# Altium footprint library Flight_Controller.PcbLib: 20 footprints (part 1 of 2)
Each footprint in its own frame and in the unit in brackets; x right, y up, seen from the top. Pads: shape width x height; smd on the part's side, far side on the other; paste and mask are expansions set on the pad; w line width, h text height; cw(c..) or ccw(c..) is an arc to the next point about the centre after c.
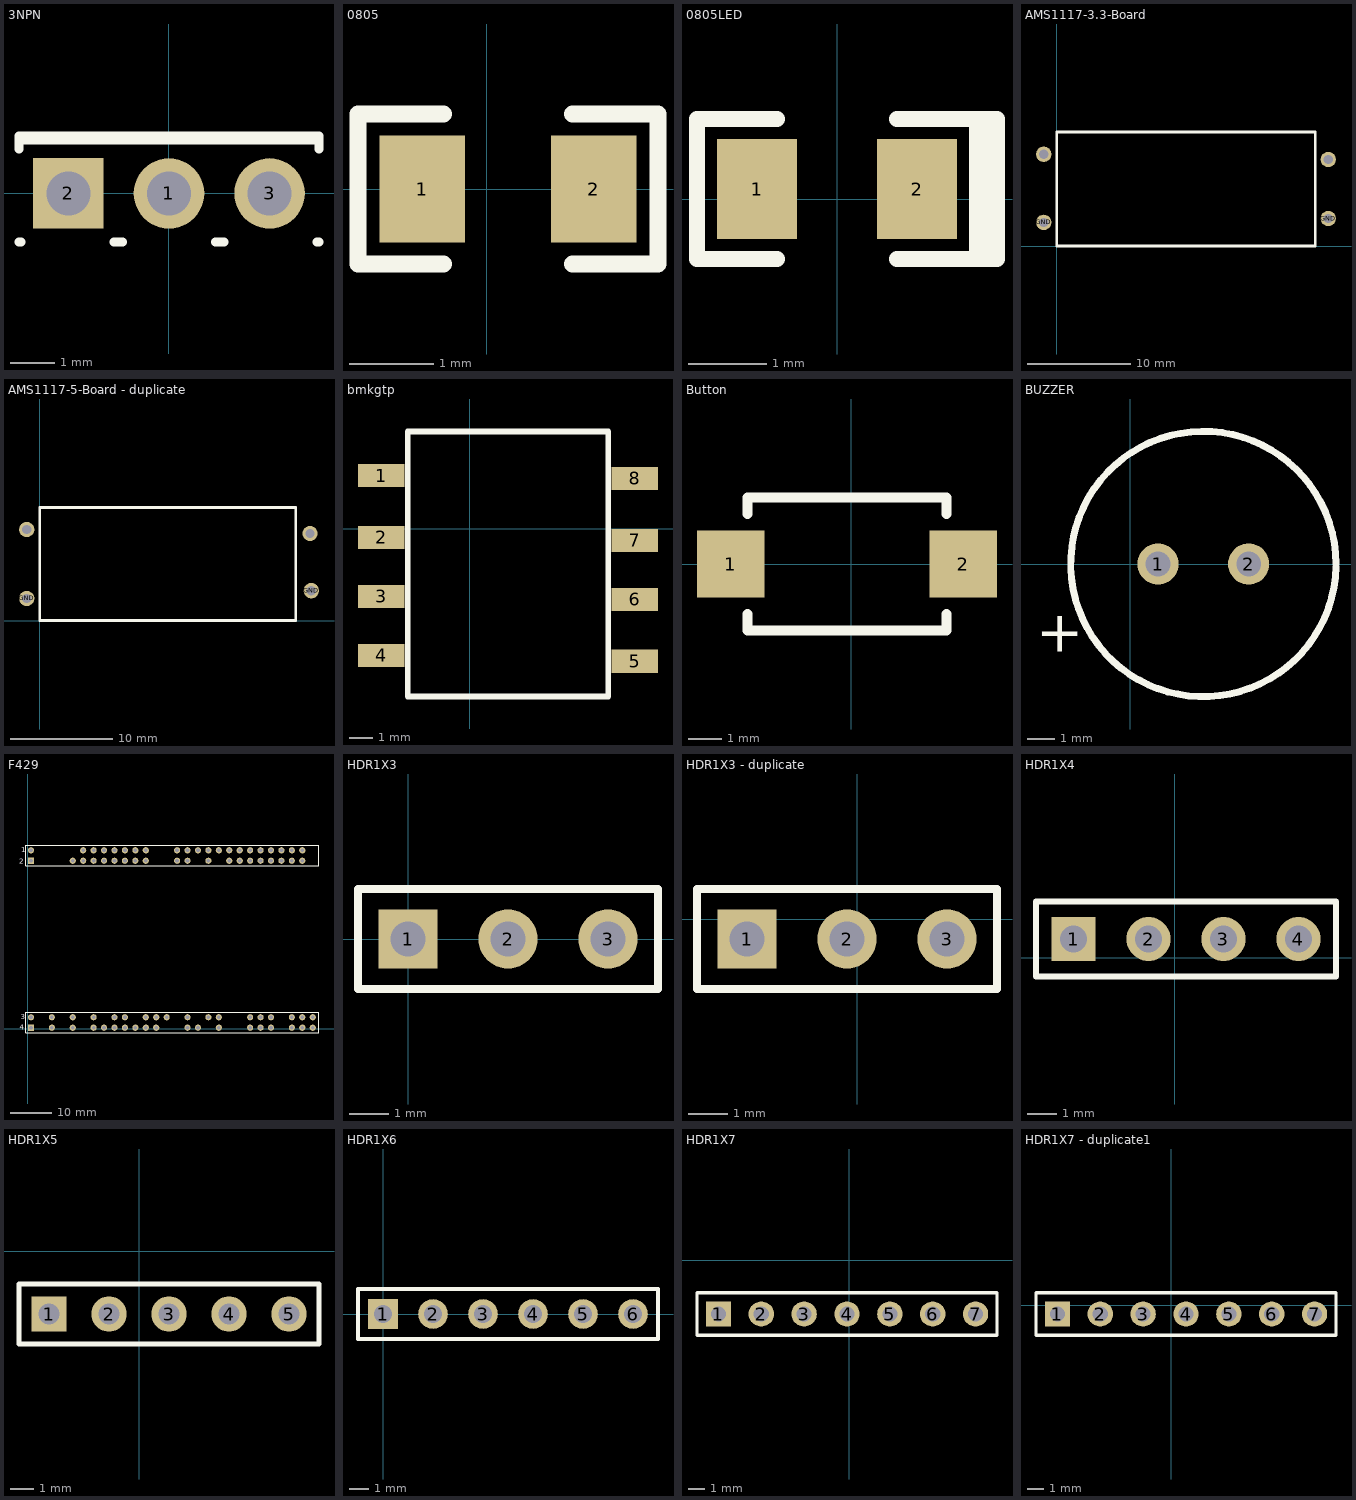
[diagram p0: the footprints below, top view; thin cyan lines are the x and y axes]

## 3NPN [mm] "TO, Thru-Hole, Vertical, Heatsink Mounted; 3 In-Line Leads; Pitch 2.28 mm"
height 9.7
pads (3):
  round 1.6 hole 1: 1(0,0) 3(2.28,0)
  rect 1.6x1.6 hole 1: 2(-2.28,0)
Top Overlay:
  lines w0.2: -3.4,-1.1 -3.35,-1.1 ; -3.4,1 -3.4,1.3 3.4,1.3 3.4,1 ; -3.4,1.21 3.4,1.21 ; -1.25,-1.1 -1.05,-1.1 ; 1.05,-1.1 1.25,-1.1 ; 3.35,-1.1 3.4,-1.1
Mechanical 15:
  lines w0.1: -0.5,0 0.5,0 ; 0,-0.5 0,0.5

## 0805 [mil] "0805"
pads (2):
  rect 40x50 smd: 1(-30,0) 2(50,0)
Top Overlay:
  lines w7.87: -60,-35 -20,-35 ; -60,35 -20,35 ; 40,-35 80,-35 ; 40,35 80,35
  lines w8: -60,-35 -60,35 ; 80,-35 80,35

## 0805LED [mil] "0805LED"
pads (2):
  rect 40x50 smd: 1(-40,5) 2(40,5)
Top Overlay:
  lines w7.87: -70,-30 -30,-30 ; -70,40 -30,40 ; 30,-30 80,-30 ; 30,40 80,40
  lines w8: -70,-30 -70,40 ; 70,-30 70,40 ; 75,-30 75,40 ; 80,-30 80,40

## AMS1117-3.3-Board [mm] "AMS1117-3.3-Board"
pads (4):
  round 1.5 hole 0.9: GND(-1.27,2.286) GND(26.289,2.667) VIN+(-1.27,8.89) VOUT+(26.289,8.382)
Top Overlay:
  lines w0.254: 0,0 25.019,0 25.019,11.049 0,11.049 0,0

## AMS1117-5-Board - duplicate [mm] "AMS1117-5-Board"
pads (4):
  round 1.5 hole 0.9: GND(-1.27,2.159) GND(26.543,2.921) VIN+(-1.27,8.89) VOUT+(26.416,8.509)
Top Overlay:
  lines w0.254: 0,0 0,11.049 25.019,11.049 25.019,0 0,0

## bmkgtp [mm]
pads (8):
  rect 2x1 smd: 1(-3.81,2.286) 2(-3.81,-0.381) 3(-3.81,-2.921) 4(-3.81,-5.461) 5(7.112,-5.715) 6(7.112,-3.048) 7(7.112,-0.508) 8(7.112,2.159)
Top Overlay:
  lines w0.254: -2.667,-7.239 5.969,-7.239 5.969,3.937 5.969,4.191 5.715,4.191 -2.667,4.191 -2.667,-7.239

## Button [mil] "Button"
pads (2):
  rect 80x80 smd: 1(-142.8,0) 2(132.8,0)
Top Overlay:
  lines w12: -123.11,-59.06 -123.11,-78.74 113.11,-78.74 113.11,-59.06 ; -123.11,59.06 -123.11,78.74 113.11,78.74 113.11,59.06

## BUZZER [mm] "BUZZER"
height 13
pads (2):
  round 1.5 hole 0.9: 1(1.016,0) 2(4.318,0)
Top Overlay:
  lines w0.254: 7.499,-0.095 cw(c2.667,0) 7.5,0
  text "+" at -3.429,-3.2 h1.5

## F429 [mm] "STM32F429Core"
pads (78):
  round 1.5 hole 0.9: 1(0.762,43.434) 6(13.462,43.434) 7(16.002,43.434) 8(18.542,43.434) 9(21.082,43.434) 10(23.622,43.434) 11(26.162,43.434) 12(28.702,43.434) 15(36.322,43.434) 16(38.862,43.434) 17(41.402,43.434) 18(43.942,43.434) 19(46.482,43.434) 20(49.022,43.434) 21(51.562,43.434) 22(54.102,43.434) 23(56.642,43.434) 24(59.182,43.434) 25(61.722,43.434) 26(64.262,43.434) 27(66.802,43.434) 33(10.922,40.894) 34(13.462,40.894) 35(16.002,40.894) 36(18.542,40.894) 37(21.082,40.894) 38(23.622,40.894) 39(26.162,40.894) 40(28.702,40.894) 43(36.322,40.894) 44(38.862,40.894) 46(43.942,40.894) 48(49.022,40.894) 49(51.562,40.894) 50(54.102,40.894) 51(56.642,40.894) 52(59.182,40.894) 53(61.722,40.894) 54(64.262,40.894) 55(66.802,40.894) 57(0.762,2.794) 59(5.842,2.794) 61(10.922,2.794) 63(16.002,2.794) 65(21.082,2.794) 66(23.622,2.794) 68(28.702,2.794) 69(31.242,2.794) 70(33.782,2.794) 72(38.862,2.794) 74(43.942,2.794) 75(46.482,2.794) 78(54.102,2.794) 79(56.642,2.794) 80(59.182,2.794) 82(64.262,2.794) 83(66.802,2.794) 84(69.342,2.794) 87(5.842,0.254) 89(10.922,0.254) 91(16.002,0.254) 92(18.542,0.254) 93(21.082,0.254) 94(23.622,0.254) 95(26.162,0.254) 96(28.702,0.254) 97(31.242,0.254) 100(38.862,0.254) 101(41.402,0.254) 103(46.482,0.254) 106(54.102,0.254) 107(56.642,0.254) 108(59.182,0.254) 110(64.262,0.254) 111(66.802,0.254) 112(69.342,0.254)
  rect 1.5x1.5 hole 0.9: 29(0.762,40.894) 85(0.762,0.254)
Top Overlay:
  lines w0.2: 70.866,-1.016 -0.508,-1.016 -0.508,4.064 70.866,4.064 ; 70.866,39.624 -0.508,39.624 -0.508,44.704 70.866,44.704
  lines w0.254: 70.866,-0.889 70.866,4.064 ; 70.866,39.751 70.866,44.704
  text "1" at -1.651,42.926 h1.27
  text "4" at -2.032,-0.254 h1.27
  text "3" at -1.778,2.286 h1.27
  text "2" at -2.159,40.132 h1.27

## HDR1X3 [mm] "HDR1X3"
pads (3):
  rect 1.5x1.5 hole 0.9: 1(0,0)
  round 1.5 hole 0.9: 2(2.54,0) 3(5.08,0)
Top Overlay:
  lines w0.2: -1.27,-1.27 -1.27,1.27 6.35,1.27 6.35,-1.27 -1.27,-1.27

## HDR1X3 - duplicate [mm] "HDR1X3"
pads (3):
  rect 1.5x1.5 hole 0.9: 1(-2.794,-0.508)
  round 1.5 hole 0.9: 2(-0.254,-0.508) 3(2.286,-0.508)
Top Overlay:
  lines w0.2: -4.064,-1.778 -4.064,0.762 3.556,0.762 3.556,-1.778 -4.064,-1.778

## HDR1X4 [mm] "HDR1X4"
pads (4):
  rect 1.5x1.5 hole 0.9: 1(-3.429,0.635)
  round 1.5 hole 0.9: 2(-0.889,0.635) 3(1.651,0.635) 4(4.191,0.635)
Top Overlay:
  lines w0.2: -4.699,-0.635 5.461,-0.635 5.461,1.905 -4.699,1.905 -4.699,-0.635

## HDR1X5 [mm] "HDR1X5"
pads (5):
  rect 1.5x1.5 hole 0.9: 1(-3.81,-2.667)
  round 1.5 hole 0.9: 2(-1.27,-2.667) 3(1.27,-2.667) 4(3.81,-2.667) 5(6.35,-2.667)
Top Overlay:
  lines w0.2: -5.08,-3.937 -5.08,-1.397 7.62,-1.397 7.62,-3.937 -5.08,-3.937

## HDR1X6 [mm] "Connector; Header; 6 Position"
pads (6):
  rect 1.5x1.5 hole 0.9: 1(0,0)
  round 1.5 hole 0.9: 2(2.54,0) 3(5.08,0) 4(7.62,0) 5(10.16,0) 6(12.7,0)
Top Overlay:
  lines w0.2: -1.27,-1.27 13.97,-1.27 13.97,1.27 -1.27,1.27 -1.27,-1.27

## HDR1X7 [mm] "HDR1X7"
pads (7):
  rect 1.5x1.5 hole 0.9: 1(-7.747,-3.175)
  round 1.5 hole 0.9: 2(-5.207,-3.175) 3(-2.667,-3.175) 4(-0.127,-3.175) 5(2.413,-3.175) 6(4.953,-3.175) 7(7.493,-3.175)
Top Overlay:
  lines w0.2: -9.017,-4.445 -9.017,-1.905 8.763,-1.905 8.763,-4.445 -9.017,-4.445

## HDR1X7 - duplicate1 [mm] "HDR1X7"
pads (7):
  rect 1.5x1.5 hole 0.9: 1(-6.731,-0.508)
  round 1.5 hole 0.9: 2(-4.191,-0.508) 3(-1.651,-0.508) 4(0.889,-0.508) 5(3.429,-0.508) 6(5.969,-0.508) 7(8.509,-0.508)
Top Overlay:
  lines w0.2: -8.001,-1.778 9.779,-1.778 9.779,0.762 -8.001,0.762 -8.001,-1.778